# Altium integrated library SN74LVC2G126DCUR.IntLib: 1 symbol
Pins are listed as number, name and electrical type; pins without a type are passive.

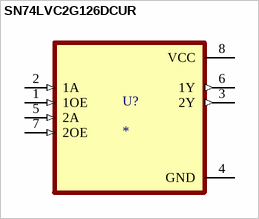
[diagram p0: symbol SN74LVC2G126DCUR]

## SN74LVC2G126DCUR
designator U?
Dual Bus Buffer Gate With 3-State Outputs 8-VSSOP -40 to 125; MP: SN74LVC2G126DCUR; MF: Texas Instruments; Check_prices: https://www.snapeda.com/parts/SN74LVC2G126DCUR/Texas%20Instruments/view-part/401295/?ref=eda; Price: None; SnapEDA_Link: https://www.snapeda.com/parts/SN74LVC2G126DCUR/Texas%20Instruments/view-part/401295/?ref=snap; Availability: Good; Value: *; Purchase-URL: https://pricing.snapeda.com/search/part/SN74LVC2G126DCUR/?ref=eda; Package: VSSOP-8 Texas Instruments
footprint SOP50P310X90-8N
pins: 1 1OE (in), 2 1A (in), 3 2Y (out), 4 GND (power), 5 2A (in), 6 1Y (out), 7 2OE (in), 8 VCC (power)